# EAGLE library part ST-SIM-004B (library Seeed-OPL-2017-01-connector-edward)
320100001
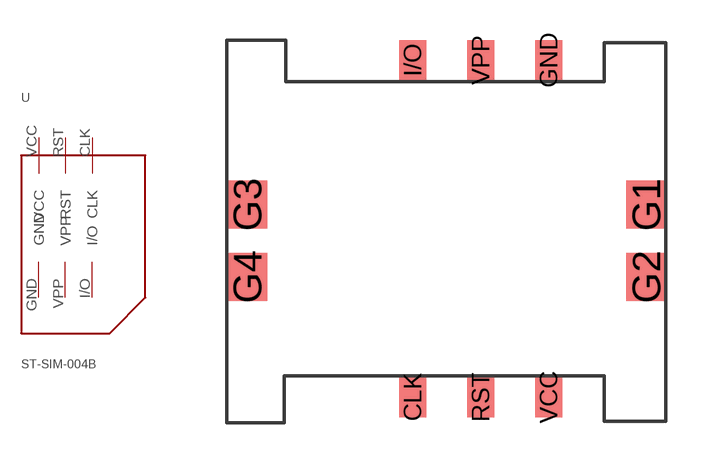
[diagram p6: symbol with the pads of ST-SIM-004B; footprint ST-SIM-004B]

Designator prefix -

## ST-SIM-004B  [ST-SIM-004B]
CLK  CLK
GND  GND
I/O  I/O
RST  RST
VCC  VCC
VPP  VPP

## Footprint ST-SIM-004B (pad centres in mm)
smd 1 x 1.5: CLK 0,0; GND 5.08,12.6; I/O 0,12.6; RST 2.54,0; VCC 5.08,0; VPP 2.54,12.6
smd 1.5 x 1.8: G1 8.72,7.2; G2 8.72,4.5; G3 -6.18,7.2; G4 -6.18,4.5